# Altium footprint library ON Semi MOSFETs.PcbLib: 92 footprints (part 5 of 6)
Each footprint in its own frame and in the unit in brackets; x right, y up, seen from the top. Pads: shape width x height; smd on the part's side, far side on the other; paste and mask are expansions set on the pad; w line width, h text height; cw(c..) or ccw(c..) is an arc to the next point about the centre after c.
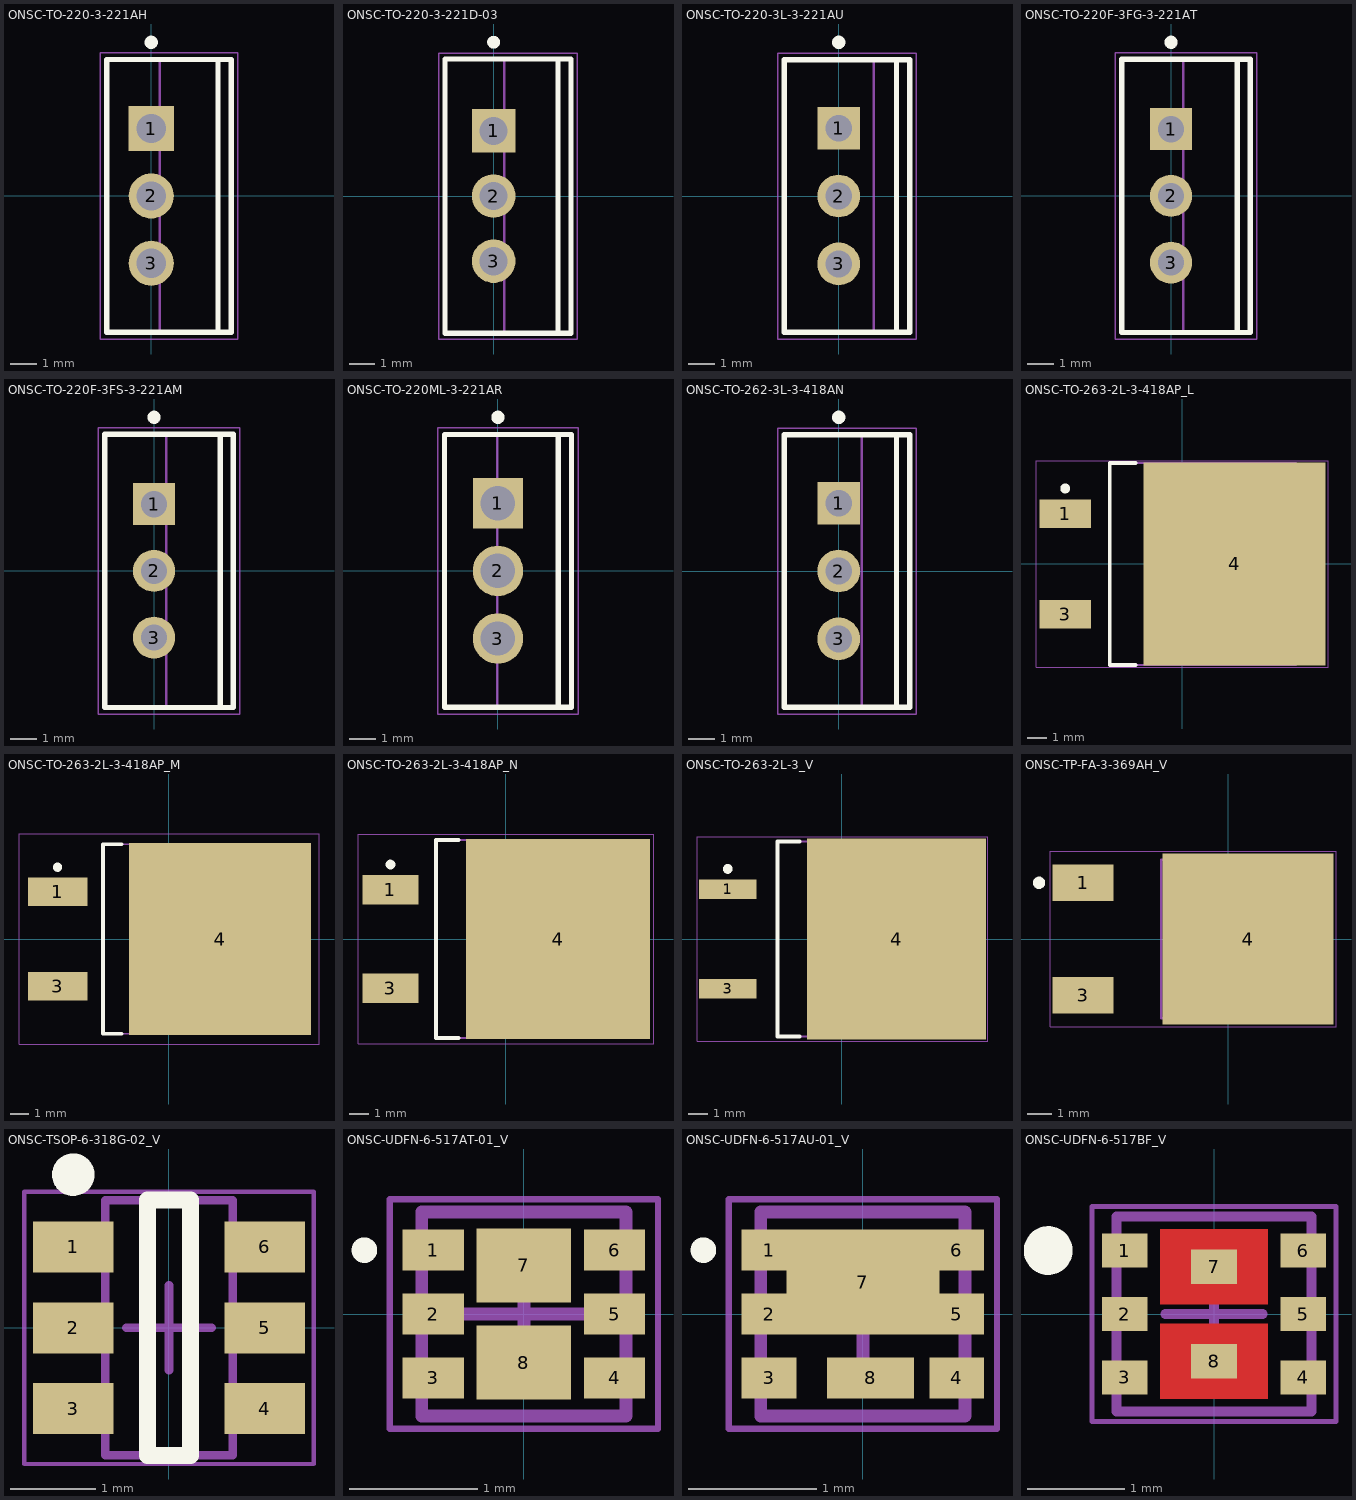
[diagram p4: the footprints below, top view; thin cyan lines are the x and y axes]

## ONSC-TO-220-3-221AH [mm] "FM, 3-Leads, Body 10.3x4.7mm, Pitch 2.54mm"
height 17.4
pads (3):
  rect 1.7x1.7 hole 1.1: 1(0,2.54)
  round 1.7 hole 1.1: 2(0,0) 3(0,-2.54)
Top Overlay:
  circle w0.25: c0,5.8 r0.125
  lines w0.2: 2.52,-5.15 2.52,5.15 ; -1.68,-5.15 3.02,-5.15 3.02,5.15 -1.68,5.15 -1.68,-5.15
Mechanical 13:
  lines w0.1: 0.32,-5.15 0.32,5.15 ; -1.68,-5.15 -1.68,5.15 3.02,5.15 3.02,-5.15 -1.68,-5.15
Mechanical 15:
  lines w0.05: -1.93,-5.4 -1.93,5.4 3.27,5.4 3.27,-5.4 -1.93,-5.4
  lines w0.1: -0.5,0 0.5,0 ; 0,-0.5 0,0.5
3D body: height 2.1, standoff 0, extent -0.32,1.915 0.32,3.165
3D body: height 0, standoff -1.6, extent -0.32,2.195 0.32,2.885
3D body: height 2.1, standoff 0, extent -0.32,-0.625 0.32,0.625
3D body: height 0, standoff -1.6, extent -0.32,-0.345 0.32,0.345
3D body: height 2.1, standoff 0, extent -0.32,-3.165 0.32,-1.915
3D body: height 0, standoff -1.6, extent -0.32,-2.885 0.32,-2.195
3D body: height 10.5, standoff 2.1, extent -1.68,-5.15 3.02,5.15
3D body: height 12.8, standoff 10.5, extent 0.32,-5 3.02,5
3D body: height 12.84, standoff 12.8, extent 0.32,0.312 3.02,5
3D body: height 12.84, standoff 12.8, extent 0.32,-5 3.02,-0.312
3D body: height 16, standoff 15.97, extent 0.32,0.312 3.02,5
3D body: height 16, standoff 15.97, extent 0.32,-5 3.02,-0.312
3D body: height 12.93, standoff 12.83, extent 0.32,0.612 3.02,5
3D body: height 12.93, standoff 12.83, extent 0.32,-5 3.02,-0.612
3D body: height 15.97, standoff 15.88, extent 0.32,0.612 3.02,5
3D body: height 15.97, standoff 15.88, extent 0.32,-5 3.02,-0.612
3D body: height 13.07, standoff 12.92, extent 0.32,0.889 3.02,5
3D body: height 13.07, standoff 12.92, extent 0.32,-5 3.02,-0.889
3D body: height 15.88, standoff 15.73, extent 0.32,0.889 3.02,5
3D body: height 15.88, standoff 15.73, extent 0.32,-5 3.02,-0.889
3D body: height 13.27, standoff 13.07, extent 0.32,1.131 3.02,5
3D body: height 13.27, standoff 13.07, extent 0.32,-5 3.02,-1.131
3D body: height 15.74, standoff 15.53, extent 0.32,1.131 3.02,5
3D body: height 15.74, standoff 15.53, extent 0.32,-5 3.02,-1.131
3D body: height 13.52, standoff 13.27, extent 0.32,1.33 3.02,5
3D body: height 13.52, standoff 13.27, extent 0.32,-5 3.02,-1.33
3D body: height 15.54, standoff 15.29, extent 0.32,1.33 3.02,5
3D body: height 15.54, standoff 15.29, extent 0.32,-5 3.02,-1.33
3D body: height 13.79, standoff 13.51, extent 0.32,1.478 3.02,5
3D body: height 13.79, standoff 13.51, extent 0.32,-5 3.02,-1.478
3D body: height 15.29, standoff 15.01, extent 0.32,1.478 3.02,5
3D body: height 15.29, standoff 15.01, extent 0.32,-5 3.02,-1.478
3D body: height 14.09, standoff 13.79, extent 0.32,1.569 3.02,5
3D body: height 14.09, standoff 13.79, extent 0.32,-5 3.02,-1.569
3D body: height 15.02, standoff 14.71, extent 0.32,1.569 3.02,5
3D body: height 15.02, standoff 14.71, extent 0.32,-5 3.02,-1.569
3D body: height 14.4, standoff 14.09, extent 0.32,1.6 3.02,5
3D body: height 14.4, standoff 14.09, extent 0.32,-5 3.02,-1.6
3D body: height 14.72, standoff 14.4, extent 0.32,1.6 3.02,5
3D body: height 14.72, standoff 14.4, extent 0.32,-5 3.02,-1.6
3D body: height 17.4, standoff 16, extent 0.32,-5 3.02,5

## ONSC-TO-220-3-221D-03 [mm] "FM, 3-Leads, Body 10.65x4.9mm, Pitch 2.54mm"
height 19.55
pads (3):
  rect 1.7x1.7 hole 1.1: 1(0,2.54)
  round 1.7 hole 1.1: 2(0,0) 3(0,-2.54)
Top Overlay:
  circle w0.25: c0,6 r0.125
  lines w0.2: 2.51,-5.35 2.51,5.35 ; -1.89,-5.35 3.01,-5.35 3.01,5.35 -1.89,5.35 -1.89,-5.35
Mechanical 13:
  lines w0.1: 0.41,-5.325 0.41,5.325 ; -1.89,-5.325 -1.89,5.325 3.01,5.325 3.01,-5.325 -1.89,-5.325
Mechanical 15:
  lines w0.05: -2.14,-5.575 -2.14,5.575 3.26,5.575 3.26,-5.575 -2.14,-5.575
  lines w0.1: -0.5,0 0.5,0 ; 0,-0.5 0,0.5
3D body: height 3, standoff 0, extent -0.27,1.865 0.27,3.215
3D body: height 0, standoff -1.6, extent -0.27,2.14 0.27,2.94
3D body: height 3, standoff 0, extent -0.27,-0.675 0.27,0.675
3D body: height 0, standoff -1.6, extent -0.27,-0.4 0.27,0.4
3D body: height 3, standoff 0, extent -0.27,-3.215 0.27,-1.865
3D body: height 0, standoff -1.6, extent -0.27,-2.94 0.27,-2.14
3D body: height 13.1, standoff 3, extent -1.89,-5.325 3.01,5.325
3D body: height 14.7, standoff 13.1, extent 0.41,-5.15 3.01,5.15
3D body: height 14.73, standoff 14.7, extent 0.41,0.302 3.01,5.15
3D body: height 14.73, standoff 14.7, extent 0.41,-5.15 3.01,-0.302
3D body: height 17.8, standoff 17.77, extent 0.41,0.302 3.01,5.15
3D body: height 17.8, standoff 17.77, extent 0.41,-5.15 3.01,-0.302
3D body: height 14.82, standoff 14.73, extent 0.41,0.593 3.01,5.15
3D body: height 14.82, standoff 14.73, extent 0.41,-5.15 3.01,-0.593
3D body: height 17.78, standoff 17.68, extent 0.41,0.593 3.01,5.15
3D body: height 17.78, standoff 17.68, extent 0.41,-5.15 3.01,-0.593
3D body: height 14.97, standoff 14.82, extent 0.41,0.861 3.01,5.15
3D body: height 14.97, standoff 14.82, extent 0.41,-5.15 3.01,-0.861
3D body: height 17.69, standoff 17.54, extent 0.41,0.861 3.01,5.15
3D body: height 17.69, standoff 17.54, extent 0.41,-5.15 3.01,-0.861
3D body: height 15.16, standoff 14.96, extent 0.41,1.096 3.01,5.15
3D body: height 15.16, standoff 14.96, extent 0.41,-5.15 3.01,-1.096
3D body: height 17.54, standoff 17.35, extent 0.41,1.096 3.01,5.15
3D body: height 17.54, standoff 17.35, extent 0.41,-5.15 3.01,-1.096
3D body: height 15.39, standoff 15.15, extent 0.41,1.289 3.01,5.15
3D body: height 15.39, standoff 15.15, extent 0.41,-5.15 3.01,-1.289
3D body: height 17.35, standoff 17.11, extent 0.41,1.289 3.01,5.15
3D body: height 17.35, standoff 17.11, extent 0.41,-5.15 3.01,-1.289
3D body: height 15.66, standoff 15.39, extent 0.41,1.432 3.01,5.15
3D body: height 15.66, standoff 15.39, extent 0.41,-5.15 3.01,-1.432
3D body: height 17.12, standoff 16.84, extent 0.41,1.432 3.01,5.15
3D body: height 17.12, standoff 16.84, extent 0.41,-5.15 3.01,-1.432
3D body: height 15.95, standoff 15.66, extent 0.41,1.52 3.01,5.15
3D body: height 15.95, standoff 15.66, extent 0.41,-5.15 3.01,-1.52
3D body: height 16.85, standoff 16.55, extent 0.41,1.52 3.01,5.15
3D body: height 16.85, standoff 16.55, extent 0.41,-5.15 3.01,-1.52
3D body: height 16.25, standoff 15.95, extent 0.41,1.55 3.01,5.15
3D body: height 16.25, standoff 15.95, extent 0.41,-5.15 3.01,-1.55
3D body: height 16.56, standoff 16.25, extent 0.41,1.55 3.01,5.15
3D body: height 16.56, standoff 16.25, extent 0.41,-5.15 3.01,-1.55
3D body: height 19.55, standoff 17.8, extent 0.41,-5.15 3.01,5.15

## ONSC-TO-220-3L-3-221AU [mm] "FM, 3-Leads, Body 10.2x4.7mm, Pitch 2.54mm"
height 19.1
pads (3):
  rect 1.6x1.6 hole 1: 1(0,2.54)
  round 1.6 hole 1: 2(0,0) 3(0,-2.54)
Top Overlay:
  circle w0.25: c0,5.75 r0.125
  lines w0.2: 2.16,-5.1 2.16,5.1 ; -2.04,-5.1 2.66,-5.1 2.66,5.1 -2.04,5.1 -2.04,-5.1
Mechanical 13:
  lines w0.1: 1.31,-5.1 1.31,5.1 ; -2.04,-5.1 -2.04,5.1 2.66,5.1 2.66,-5.1 -2.04,-5.1
Mechanical 15:
  lines w0.05: -2.29,-5.35 -2.29,5.35 2.91,5.35 2.91,-5.35 -2.29,-5.35
  lines w0.1: -0.5,0 0.5,0 ; 0,-0.5 0,0.5
3D body: height 2.8, standoff 0, extent -0.265,1.78 0.265,3.3
3D body: height 0, standoff -1.6, extent -0.265,2.14 0.265,2.94
3D body: height 2.8, standoff 0, extent -0.265,-0.76 0.265,0.76
3D body: height 0, standoff -1.6, extent -0.265,-0.4 0.265,0.4
3D body: height 2.8, standoff 0, extent -0.265,-3.3 0.265,-1.78
3D body: height 0, standoff -1.6, extent -0.265,-2.94 0.265,-2.14
3D body: height 12.6, standoff 2.8, extent -2.04,-5.1 2.66,5.1
3D body: height 14.5, standoff 12.6, extent 1.31,-5 2.66,5
3D body: height 14.54, standoff 14.5, extent 1.31,0.351 2.66,5
3D body: height 14.54, standoff 14.5, extent 1.31,-5 2.66,-0.351
3D body: height 18.1, standoff 18.07, extent 1.31,0.351 2.66,5
3D body: height 18.1, standoff 18.07, extent 1.31,-5 2.66,-0.351
3D body: height 14.64, standoff 14.53, extent 1.31,0.689 2.66,5
3D body: height 14.64, standoff 14.53, extent 1.31,-5 2.66,-0.689
3D body: height 18.07, standoff 17.96, extent 1.31,0.689 2.66,5
3D body: height 18.07, standoff 17.96, extent 1.31,-5 2.66,-0.689
3D body: height 14.81, standoff 14.64, extent 1.31,1 2.66,5
3D body: height 14.81, standoff 14.64, extent 1.31,-5 2.66,-1
3D body: height 17.97, standoff 17.8, extent 1.31,1 2.66,5
3D body: height 17.97, standoff 17.8, extent 1.31,-5 2.66,-1
3D body: height 15.03, standoff 14.8, extent 1.31,1.273 2.66,5
3D body: height 15.03, standoff 14.8, extent 1.31,-5 2.66,-1.273
3D body: height 17.8, standoff 17.57, extent 1.31,1.273 2.66,5
3D body: height 17.8, standoff 17.57, extent 1.31,-5 2.66,-1.273
3D body: height 15.3, standoff 15.03, extent 1.31,1.497 2.66,5
3D body: height 15.3, standoff 15.03, extent 1.31,-5 2.66,-1.497
3D body: height 17.58, standoff 17.3, extent 1.31,1.497 2.66,5
3D body: height 17.58, standoff 17.3, extent 1.31,-5 2.66,-1.497
3D body: height 15.62, standoff 15.3, extent 1.31,1.663 2.66,5
3D body: height 15.62, standoff 15.3, extent 1.31,-5 2.66,-1.663
3D body: height 17.31, standoff 16.99, extent 1.31,1.663 2.66,5
3D body: height 17.31, standoff 16.99, extent 1.31,-5 2.66,-1.663
3D body: height 15.95, standoff 15.61, extent 1.31,1.765 2.66,5
3D body: height 15.95, standoff 15.61, extent 1.31,-5 2.66,-1.765
3D body: height 16.99, standoff 16.65, extent 1.31,1.765 2.66,5
3D body: height 16.99, standoff 16.65, extent 1.31,-5 2.66,-1.765
3D body: height 16.3, standoff 15.95, extent 1.31,1.8 2.66,5
3D body: height 16.3, standoff 15.95, extent 1.31,-5 2.66,-1.8
3D body: height 16.66, standoff 16.3, extent 1.31,1.8 2.66,5
3D body: height 16.66, standoff 16.3, extent 1.31,-5 2.66,-1.8
3D body: height 19.1, standoff 18.1, extent 1.31,-5 2.66,5

## ONSC-TO-220F-3FG-3-221AT [mm] "FM, 3-Leads, Body 10.4x4.9mm, Pitch 2.54mm"
height 19.5
pads (3):
  rect 1.6x1.6 hole 1: 1(0,2.54)
  round 1.6 hole 1: 2(0,0) 3(0,-2.54)
Top Overlay:
  circle w0.25: c0,5.85 r0.125
  lines w0.2: 2.52,-5.2 2.52,5.2 ; -1.88,-5.2 -1.88,5.2 3.02,5.2 3.02,-5.2 -1.88,-5.2
Mechanical 13:
  lines w0.1: 0.47,-5.2 0.47,5.2 ; -1.88,-5.2 3.02,-5.2 3.02,5.2 -1.88,5.2 -1.88,-5.2
Mechanical 15:
  lines w0.05: -2.13,-5.45 3.27,-5.45 3.27,5.45 -2.13,5.45 -2.13,-5.45
  lines w0.1: -0.5,0 0.5,0 ; 0,-0.5 0,0.5
3D body: height 19.5, standoff 17.8, extent 0.47,-5.075 3.02,5.075
3D body: height 16.52, standoff 16.2, extent 0.47,-5.075 3.02,-1.6
3D body: height 16.52, standoff 16.2, extent 0.47,1.6 3.02,5.075
3D body: height 16.2, standoff 15.89, extent 0.47,-5.075 3.02,-1.6
3D body: height 16.2, standoff 15.89, extent 0.47,1.6 3.02,5.075
3D body: height 16.82, standoff 16.51, extent 0.47,-5.075 3.02,-1.569
3D body: height 16.82, standoff 16.51, extent 0.47,1.569 3.02,5.075
3D body: height 15.89, standoff 15.59, extent 0.47,-5.075 3.02,-1.569
3D body: height 15.89, standoff 15.59, extent 0.47,1.569 3.02,5.075
3D body: height 17.09, standoff 16.81, extent 0.47,-5.075 3.02,-1.478
3D body: height 17.09, standoff 16.81, extent 0.47,1.478 3.02,5.075
3D body: height 15.59, standoff 15.31, extent 0.47,-5.075 3.02,-1.478
3D body: height 15.59, standoff 15.31, extent 0.47,1.478 3.02,5.075
3D body: height 17.34, standoff 17.09, extent 0.47,-5.075 3.02,-1.33
3D body: height 17.34, standoff 17.09, extent 0.47,1.33 3.02,5.075
3D body: height 15.32, standoff 15.07, extent 0.47,-5.075 3.02,-1.33
3D body: height 15.32, standoff 15.07, extent 0.47,1.33 3.02,5.075
3D body: height 17.54, standoff 17.33, extent 0.47,-5.075 3.02,-1.131
3D body: height 17.54, standoff 17.33, extent 0.47,1.131 3.02,5.075
3D body: height 15.07, standoff 14.87, extent 0.47,-5.075 3.02,-1.131
3D body: height 15.07, standoff 14.87, extent 0.47,1.131 3.02,5.075
3D body: height 17.68, standoff 17.53, extent 0.47,-5.075 3.02,-0.889
3D body: height 17.68, standoff 17.53, extent 0.47,0.889 3.02,5.075
3D body: height 14.87, standoff 14.72, extent 0.47,-5.075 3.02,-0.889
3D body: height 14.87, standoff 14.72, extent 0.47,0.889 3.02,5.075
3D body: height 17.77, standoff 17.68, extent 0.47,-5.075 3.02,-0.612
3D body: height 17.77, standoff 17.68, extent 0.47,0.612 3.02,5.075
3D body: height 14.73, standoff 14.63, extent 0.47,-5.075 3.02,-0.612
3D body: height 14.73, standoff 14.63, extent 0.47,0.612 3.02,5.075
3D body: height 17.8, standoff 17.77, extent 0.47,-5.075 3.02,-0.312
3D body: height 17.8, standoff 17.77, extent 0.47,0.312 3.02,5.075
3D body: height 14.64, standoff 14.6, extent 0.47,-5.075 3.02,-0.312
3D body: height 14.64, standoff 14.6, extent 0.47,0.312 3.02,5.075
3D body: height 14.6, standoff 12.8, extent 0.47,-5.075 3.02,5.075
3D body: height 12.8, standoff 3.03, extent -1.88,-5.2 3.02,5.2
3D body: height 0, standoff -1.6, extent -0.265,-2.94 0.265,-2.14
3D body: height 3.03, standoff 0, extent -0.265,-3.275 0.265,-1.805
3D body: height 0, standoff -1.6, extent -0.265,-0.4 0.265,0.4
3D body: height 3.03, standoff 0, extent -0.265,-0.735 0.265,0.735
3D body: height 0, standoff -1.6, extent -0.265,2.14 0.265,2.94
3D body: height 3.03, standoff 0, extent -0.265,1.805 0.265,3.275

## ONSC-TO-220F-3FS-3-221AM [mm] "FM, 3-Leads, Body 10.4x4.9mm, Pitch 2.54mm"
height 19.5
pads (3):
  rect 1.6x1.6 hole 1: 1(0,2.54)
  round 1.6 hole 1: 2(0,0) 3(0,-2.54)
Top Overlay:
  circle w0.25: c0,5.85 r0.125
  lines w0.2: 2.52,-5.2 2.52,5.2 ; -1.88,-5.2 3.02,-5.2 3.02,5.2 -1.88,5.2 -1.88,-5.2
Mechanical 13:
  lines w0.1: 0.47,-5.2 0.47,5.2 ; -1.88,-5.2 -1.88,5.2 3.02,5.2 3.02,-5.2 -1.88,-5.2
Mechanical 15:
  lines w0.05: -2.13,-5.45 -2.13,5.45 3.27,5.45 3.27,-5.45 -2.13,-5.45
  lines w0.1: -0.5,0 0.5,0 ; 0,-0.5 0,0.5
3D body: height 3.03, standoff 0, extent -0.265,1.805 0.265,3.275
3D body: height 0, standoff -1.6, extent -0.265,2.14 0.265,2.94
3D body: height 3.03, standoff 0, extent -0.265,-0.735 0.265,0.735
3D body: height 0, standoff -1.6, extent -0.265,-0.4 0.265,0.4
3D body: height 3.03, standoff 0, extent -0.265,-3.275 0.265,-1.805
3D body: height 0, standoff -1.6, extent -0.265,-2.94 0.265,-2.14
3D body: height 12.8, standoff 3.03, extent -1.88,-5.2 3.02,5.2
3D body: height 14.6, standoff 12.8, extent 0.47,-5.075 3.02,5.075
3D body: height 14.64, standoff 14.6, extent 0.47,0.312 3.02,5.075
3D body: height 14.64, standoff 14.6, extent 0.47,-5.075 3.02,-0.312
3D body: height 17.8, standoff 17.77, extent 0.47,0.312 3.02,5.075
3D body: height 17.8, standoff 17.77, extent 0.47,-5.075 3.02,-0.312
3D body: height 14.73, standoff 14.63, extent 0.47,0.612 3.02,5.075
3D body: height 14.73, standoff 14.63, extent 0.47,-5.075 3.02,-0.612
3D body: height 17.77, standoff 17.68, extent 0.47,0.612 3.02,5.075
3D body: height 17.77, standoff 17.68, extent 0.47,-5.075 3.02,-0.612
3D body: height 14.87, standoff 14.72, extent 0.47,0.889 3.02,5.075
3D body: height 14.87, standoff 14.72, extent 0.47,-5.075 3.02,-0.889
3D body: height 17.68, standoff 17.53, extent 0.47,0.889 3.02,5.075
3D body: height 17.68, standoff 17.53, extent 0.47,-5.075 3.02,-0.889
3D body: height 15.07, standoff 14.87, extent 0.47,1.131 3.02,5.075
3D body: height 15.07, standoff 14.87, extent 0.47,-5.075 3.02,-1.131
3D body: height 17.54, standoff 17.33, extent 0.47,1.131 3.02,5.075
3D body: height 17.54, standoff 17.33, extent 0.47,-5.075 3.02,-1.131
3D body: height 15.32, standoff 15.07, extent 0.47,1.33 3.02,5.075
3D body: height 15.32, standoff 15.07, extent 0.47,-5.075 3.02,-1.33
3D body: height 17.34, standoff 17.09, extent 0.47,1.33 3.02,5.075
3D body: height 17.34, standoff 17.09, extent 0.47,-5.075 3.02,-1.33
3D body: height 15.59, standoff 15.31, extent 0.47,1.478 3.02,5.075
3D body: height 15.59, standoff 15.31, extent 0.47,-5.075 3.02,-1.478
3D body: height 17.09, standoff 16.81, extent 0.47,1.478 3.02,5.075
3D body: height 17.09, standoff 16.81, extent 0.47,-5.075 3.02,-1.478
3D body: height 15.89, standoff 15.59, extent 0.47,1.569 3.02,5.075
3D body: height 15.89, standoff 15.59, extent 0.47,-5.075 3.02,-1.569
3D body: height 16.82, standoff 16.51, extent 0.47,1.569 3.02,5.075
3D body: height 16.82, standoff 16.51, extent 0.47,-5.075 3.02,-1.569
3D body: height 16.2, standoff 15.89, extent 0.47,1.6 3.02,5.075
3D body: height 16.2, standoff 15.89, extent 0.47,-5.075 3.02,-1.6
3D body: height 16.52, standoff 16.2, extent 0.47,1.6 3.02,5.075
3D body: height 16.52, standoff 16.2, extent 0.47,-5.075 3.02,-1.6
3D body: height 19.5, standoff 17.8, extent 0.47,-5.075 3.02,5.075

## ONSC-TO-220ML-3-221AR [mm] "FM, 3-Leads, Body 10.3x4.8mm, Pitch 2.55mm"
height 20.1
pads (3):
  rect 1.9x1.9 hole 1.3: 1(0,2.55)
  round 1.9 hole 1.3: 2(0,0) 3(0,-2.55)
Top Overlay:
  circle w0.25: c0,5.8 r0.125
  lines w0.2: 2.28,-5.15 2.28,5.15 ; -2.02,-5.15 -2.02,5.15 2.78,5.15 2.78,-5.15 -2.02,-5.15
Mechanical 13:
  lines w0.1: -0.02,-5.15 -0.02,5.15 ; -2.02,-5.15 2.78,-5.15 2.78,5.15 -2.02,5.15 -2.02,-5.15
Mechanical 15:
  lines w0.05: -2.27,-5.4 3.03,-5.4 3.03,5.4 -2.27,5.4 -2.27,-5.4
  lines w0.1: -0.5,0 0.5,0 ; 0,-0.5 0,0.5
3D body: height 20.1, standoff 18.2, extent -0.02,-5 2.78,5
3D body: height 16.92, standoff 16.6, extent -0.02,-5 2.78,-1.6
3D body: height 16.92, standoff 16.6, extent -0.02,1.6 2.78,5
3D body: height 16.6, standoff 16.29, extent -0.02,-5 2.78,-1.6
3D body: height 16.6, standoff 16.29, extent -0.02,1.6 2.78,5
3D body: height 17.22, standoff 16.91, extent -0.02,-5 2.78,-1.569
3D body: height 17.22, standoff 16.91, extent -0.02,1.569 2.78,5
3D body: height 16.29, standoff 15.99, extent -0.02,-5 2.78,-1.569
3D body: height 16.29, standoff 15.99, extent -0.02,1.569 2.78,5
3D body: height 17.49, standoff 17.21, extent -0.02,-5 2.78,-1.478
3D body: height 17.49, standoff 17.21, extent -0.02,1.478 2.78,5
3D body: height 15.99, standoff 15.71, extent -0.02,-5 2.78,-1.478
3D body: height 15.99, standoff 15.71, extent -0.02,1.478 2.78,5
3D body: height 17.74, standoff 17.49, extent -0.02,-5 2.78,-1.33
3D body: height 17.74, standoff 17.49, extent -0.02,1.33 2.78,5
3D body: height 15.72, standoff 15.47, extent -0.02,-5 2.78,-1.33
3D body: height 15.72, standoff 15.47, extent -0.02,1.33 2.78,5
3D body: height 17.94, standoff 17.73, extent -0.02,-5 2.78,-1.131
3D body: height 17.94, standoff 17.73, extent -0.02,1.131 2.78,5
3D body: height 15.47, standoff 15.27, extent -0.02,-5 2.78,-1.131
3D body: height 15.47, standoff 15.27, extent -0.02,1.131 2.78,5
3D body: height 18.08, standoff 17.93, extent -0.02,-5 2.78,-0.889
3D body: height 18.08, standoff 17.93, extent -0.02,0.889 2.78,5
3D body: height 15.27, standoff 15.12, extent -0.02,-5 2.78,-0.889
3D body: height 15.27, standoff 15.12, extent -0.02,0.889 2.78,5
3D body: height 18.17, standoff 18.08, extent -0.02,-5 2.78,-0.612
3D body: height 18.17, standoff 18.08, extent -0.02,0.612 2.78,5
3D body: height 15.13, standoff 15.03, extent -0.02,-5 2.78,-0.612
3D body: height 15.13, standoff 15.03, extent -0.02,0.612 2.78,5
3D body: height 18.2, standoff 18.17, extent -0.02,-5 2.78,-0.312
3D body: height 18.2, standoff 18.17, extent -0.02,0.312 2.78,5
3D body: height 15.04, standoff 15, extent -0.02,-5 2.78,-0.312
3D body: height 15.04, standoff 15, extent -0.02,0.312 2.78,5
3D body: height 15, standoff 12.9, extent -0.02,-5 2.78,5
3D body: height 12.9, standoff 3.4, extent -2.02,-5.15 2.78,5.15
3D body: height 0, standoff -1.6, extent -0.375,-2.95 0.375,-2.15
3D body: height 3.4, standoff 0, extent -0.375,-3.4 0.375,-1.7
3D body: height 0, standoff -1.6, extent -0.375,-0.4 0.375,0.4
3D body: height 3.4, standoff 0, extent -0.375,-0.85 0.375,0.85
3D body: height 0, standoff -1.6, extent -0.375,2.15 0.375,2.95
3D body: height 3.4, standoff 0, extent -0.375,1.7 0.375,3.4

## ONSC-TO-262-3L-3-418AN [mm] "FM, 3-Leads, Body 10.2x4.7mm, Pitch 2.54mm"
height 13.89
pads (3):
  rect 1.6x1.6 hole 1: 1(0,2.54)
  round 1.6 hole 1: 2(0,0) 3(0,-2.54)
Top Overlay:
  circle w0.25: c0,5.75 r0.125
  lines w0.2: 2.16,-5.1 2.16,5.1 ; -2.04,-5.1 -2.04,5.1 2.66,5.1 2.66,-5.1 -2.04,-5.1
Mechanical 13:
  lines w0.1: 0.86,-5.1 0.86,5.1 ; -2.04,-5.1 2.66,-5.1 2.66,5.1 -2.04,5.1 -2.04,-5.1
Mechanical 15:
  lines w0.05: -2.29,-5.35 2.91,-5.35 2.91,5.35 -2.29,5.35 -2.29,-5.35
  lines w0.1: -0.5,0 0.5,0 ; 0,-0.5 0,0.5
3D body: height 13.89, standoff 12.69, extent 0.86,-5 2.66,5
3D body: height 12.69, standoff 2.8, extent -2.04,-5.1 2.66,5.1
3D body: height 0, standoff -1.6, extent -0.265,-2.94 0.265,-2.14
3D body: height 2.8, standoff 0, extent -0.265,-3.275 0.265,-1.805
3D body: height 0, standoff -1.6, extent -0.265,-0.4 0.265,0.4
3D body: height 2.8, standoff 0, extent -0.265,-0.735 0.265,0.735
3D body: height 0, standoff -1.6, extent -0.265,2.14 0.265,2.94
3D body: height 2.8, standoff 0, extent -0.265,1.805 0.265,3.275

## ONSC-TO-263-2L-3-418AP_L [mm] "DPAK, 3-Leads, Body 10.2x9.4mm, Pitch 2.54mm, IPC High Density"
height 4.96
pads (3):
  rect 2.6x1.45 smd: 1(-5.9,2.54) 3(-5.9,-2.54)
  rect 9.2x10.25 smd: 4(2.65,0)
Top Overlay:
  circle w0.25: c-5.9,3.815 r0.125
  lines w0.2: -2.35,-5.1 -3.65,-5.1 -3.65,5.1 -2.35,5.1
Mechanical 13:
  lines w0.1: -3.65,-5.1 5.75,-5.1 5.75,5.1 -3.65,5.1 -3.65,-5.1
Mechanical 15:
  lines w0.05: -7.375,-5.225 7.375,-5.225 7.375,5.225 -7.375,5.225 -7.375,-5.225
  lines w0.1: -0.5,0 0.5,0 ; 0,-0.5 0,0.5
3D body: height 4.96, standoff 0.25, extent -3.65,-5.1 5.75,5.1

## ONSC-TO-263-2L-3-418AP_M [mm] "DPAK, 3-Leads, Body 10.2x9.4mm, Pitch 2.54mm, IPC Low Density"
height 4.96
pads (3):
  rect 3.2x1.55 smd: 1(-6,2.54) 3(-6,-2.54)
  rect 9.8x10.35 smd: 4(2.75,0)
Top Overlay:
  circle w0.25: c-6,3.865 r0.125
  lines w0.2: -2.55,-5.1 -3.55,-5.1 -3.55,5.1 -2.55,5.1
Mechanical 13:
  lines w0.1: -3.55,-5.1 5.85,-5.1 5.85,5.1 -3.55,5.1 -3.55,-5.1
Mechanical 15:
  lines w0.05: -8.075,-5.675 8.075,-5.675 8.075,5.675 -8.075,5.675 -8.075,-5.675
  lines w0.1: -0.5,0 0.5,0 ; 0,-0.5 0,0.5
3D body: height 4.96, standoff 0.25, extent -3.55,-5.1 5.85,5.1

## ONSC-TO-263-2L-3-418AP_N [mm] "DPAK, 3-Leads, Body 10.2x9.4mm, Pitch 2.54mm, IPC Medium Density"
height 4.96
pads (3):
  rect 2.9x1.5 smd: 1(-5.95,2.54) 3(-5.95,-2.54)
  rect 9.5x10.3 smd: 4(2.7,0)
Top Overlay:
  circle w0.25: c-5.95,3.84 r0.125
  lines w0.2: -2.45,-5.1 -3.6,-5.1 -3.6,5.1 -2.45,5.1
Mechanical 13:
  lines w0.1: -3.6,-5.1 5.8,-5.1 5.8,5.1 -3.6,5.1 -3.6,-5.1
Mechanical 15:
  lines w0.05: -7.625,-5.4 7.625,-5.4 7.625,5.4 -7.625,5.4 -7.625,-5.4
  lines w0.1: -0.5,0 0.5,0 ; 0,-0.5 0,0.5
3D body: height 4.96, standoff 0.25, extent -3.6,-5.1 5.8,5.1

## ONSC-TO-263-2L-3_V [mm] "FM, 3-Leads, Body 10x9.2mm, Pitch 2.54mm"
height 4.7
pads (3):
  rect 2.95x1 smd: 1(-5.85,2.54) 3(-5.85,-2.54)
  rect 9.15x10.3 smd: 4(2.8,0)
Top Overlay:
  circle w0.25: c-5.85,3.59 r0.125
  lines w0.2: -2.175,-5 -3.3,-5 -3.3,5 -2.175,5
Mechanical 13:
  lines w0.1: -3.3,-5 5.9,-5 5.9,5 -3.3,5 -3.3,-5
Mechanical 15:
  lines w0.05: -7.425,-5.25 7.475,-5.25 7.475,5.25 -7.425,5.25 -7.425,-5.25
  lines w0.1: -0.5,0 0.5,0 ; 0,-0.5 0,0.5
3D body: height 4.7, standoff 0, extent -3.3,-5 5.9,5

## ONSC-TP-FA-3-369AH_V [mm] "DPAK, 3-Leads, Body 6.5x5.5mm, Pitch 2.3mm"
height 2.5
pads (3):
  rect 2.5x1.5 smd: 1(-5.95,2.3) 3(-5.95,-2.3)
  rect 7x7 smd: 4(0.8,0)
Top Overlay:
  circle w0.25: c-7.75,2.3 r0.125
Mechanical 13:
  lines w0.1: -2.75,-3.25 -2.75,3.25 2.75,3.25 2.75,-3.25 -2.75,-3.25
Mechanical 15:
  lines w0.05: -7.3,-3.6 -7.3,3.6 4.4,3.6 4.4,-3.6 -7.3,-3.6
  lines w0.1: -0.5,0 0.5,0 ; 0,-0.5 0,0.5
3D body: height 2.5, standoff 0, extent -2.75,-3.25 2.75,3.25

## ONSC-TSOP-6-318G-02_V [mm] "SOP, 6-Leads, Body 3x1.5mm, Pitch 0.95mm"
height 1.1
pads (6):
  rect 0.95x0.6 smd: 1(-1.125,0.95) 2(-1.125,0) 3(-1.125,-0.95) 4(1.125,-0.95) 5(1.125,0) 6(1.125,0.95)
Top Overlay:
  circle w0.25: c-1.125,1.8 r0.125
  lines w0.2: -0.25,-1.5 0.25,-1.5 0.25,1.5 -0.25,1.5 -0.25,-1.5
Mechanical 13:
  lines w0.1: -0.75,-1.5 0.75,-1.5 0.75,1.5 -0.75,1.5 -0.75,-1.5
Mechanical 15:
  lines w0.05: -1.7,-1.6 1.7,-1.6 1.7,1.6 -1.7,1.6 -1.7,-1.6
  lines w0.1: -0.5,0 0.5,0 ; 0,-0.5 0,0.5
3D body: height 1.1, standoff 0.01, extent -0.75,-1.5 0.75,1.5

## ONSC-UDFN-6-517AT-01_V [mm] "SON, 6-Leads, Body 1.6x1.6mm, Pitch 0.5mm"
height 0.55
pads (8):
  rect 0.48x0.32 smd: 1(-0.71,0.5) 2(-0.71,0) 3(-0.71,-0.5) 4(0.71,-0.5) 5(0.71,0) 6(0.71,0.5)
  rect 0.74x0.58 smd: 7(0,0.38) 8(0,-0.38)
Top Overlay:
  circle w0.1: c-1.25,0.5 r0.05
Mechanical 13:
  lines w0.1: -0.8,-0.8 -0.8,0.8 0.8,0.8 0.8,-0.8 -0.8,-0.8
Mechanical 15:
  lines w0.05: -1.05,-0.9 -1.05,0.9 1.05,0.9 1.05,-0.9 -1.05,-0.9
  lines w0.1: -0.5,0 0.5,0 ; 0,-0.5 0,0.5
3D body: height 0.55, standoff 0, extent -0.8,-0.8 0.8,0.8

## ONSC-UDFN-6-517AU-01_V [mm] "SON, 6-Leads, Body 1.6x1.6mm, Pitch 0.5mm"
height 0.55
pads (8):
  rect 0.43x0.32 smd: 1(-0.735,0.5) 2(-0.735,0) 3(-0.735,-0.5) 4(0.735,-0.5) 5(0.735,0) 6(0.735,0.5)
  rect 1.2x0.82 smd: 7(0,0.25)
  rect 0.68x0.32 smd: 8(0.06,-0.5)
Top Overlay:
  circle w0.1: c-1.25,0.5 r0.05
Mechanical 13:
  lines w0.1: -0.8,-0.8 -0.8,0.8 0.8,0.8 0.8,-0.8 -0.8,-0.8
Mechanical 15:
  lines w0.05: -1.05,-0.9 1.05,-0.9 1.05,0.9 -1.05,0.9 -1.05,-0.9
  lines w0.1: -0.5,0 0.5,0 ; 0,-0.5 0,0.5
3D body: height 0.55, standoff 0, extent -0.8,-0.8 0.8,0.8

## ONSC-UDFN-6-517BF_V [mm] "SON, 6-Leads, Body 2x2mm, Pitch 0.65mm"
height 0.55
pads (8):
  rect 0.47x0.35 smd: 1(-0.915,0.65) 2(-0.915,0) 3(-0.915,-0.65) 4(0.915,-0.65) 5(0.915,0) 6(0.915,0.65)
  rect 0.47x0.35 smd paste+0 mask+0: 7(0,0.485) 8(0,-0.485)
Top Layer:
  region: -0.55,0.1 -0.55,0.87 0.55,0.87 0.55,0.1
  region: -0.55,-0.87 -0.55,-0.1 0.55,-0.1 0.55,-0.87
Top Overlay:
  circle w0.25: c-1.7,0.65 r0.125
Mechanical 13:
  lines w0.1: -1,-1 -1,1 1,1 1,-1 -1,-1
Mechanical 15:
  lines w0.05: -1.25,-1.1 -1.25,1.1 1.25,1.1 1.25,-1.1 -1.25,-1.1
  lines w0.1: -0.5,0 0.5,0 ; 0,-0.5 0,0.5
3D body: height 0.55, standoff 0, extent -1,-1 1,1